# EAGLE library part 750314461 (library WE-IBTI)
WE-IBTI Isolated Buck Transformers Characteristics Flybuck™ topology Operating Temp: -40°C to +125°C Excellent leakage inductance and interwinding capacitance performance Applications Industrial Programmable Logic Controllers (PLCs) Building automation and process control Isolated interface power: RS-422, RS-485, CAN, I2C, LAN Motor drive control, inverters and industrial automation Isolated low power drivers & regulators, smart e-meters Bias power supplies for gate drives and op-amps <https://www.we-online.com/components/media/o790826v209%20family-MID-IBTI.1673.jpg> Details see: www.we-online.com/en/components/products/WE-IBTI <www.we-online.com/catalog/WE-IBTI/?utm_source=eagle_model&utm_medium=description_link&utm_campaign=eisos_eagle> Created by Ella Wu 2024-06-07 2024 (C) Wurth Elektronik
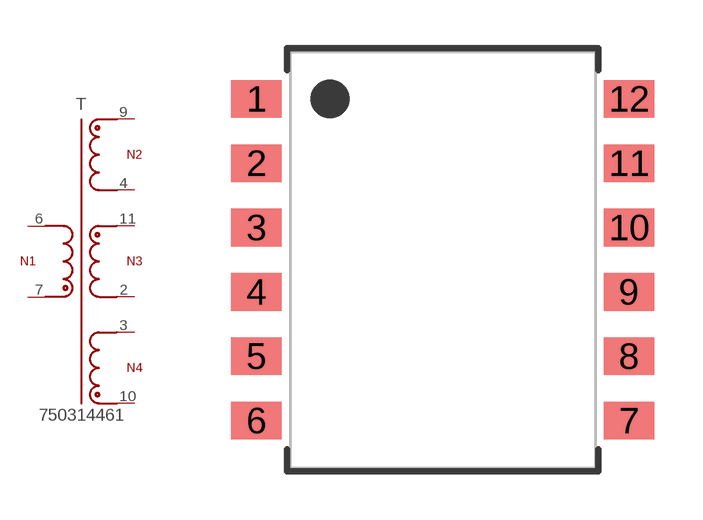
[diagram p20: symbol with the pads of WE-IBTI_ER11.5_L12.95W12.7H5.98; footprint WE-IBTI_ER11.5_L12.95W12.7H5.98]

Designator prefix T

## 750314461 (DATASHEET-URL: https://www.we-online.com/redexpert/spec/750314461?ae; FSWITCH: 200 - 350kHz; HEIGHT: 5.98mm; IOUT1: 33mA; IOUT2: 100mA; IOUT3: 100mA; ISAT: 0.96A; L: 45uH; LENGTH: 12.95mm; LS: 400nH; MOUNT: SMT; N: 1.92:3:1:1; PART-NUMBER: 750314461; SIZE: ER11.5; VALUE: 750314461; VBUCK: 13V; VIN: 16 - 36 V (DC); VOUT1: 15V; VOUT2: 5V; VOUT3: -5V; VT: 1500V(AC); WIDTH: 12.7mm)  [WE-IBTI_ER11.5_L12.95W12.7H5.98]
2  2  pas
3  3  pas
4  4  pas
6  6  pas
7  7  pas
9  9  pas
10  10  pas
11  11  pas

## Footprint WE-IBTI_ER11.5_L12.95W12.7H5.98 (pad centres in mm)
WE-IBTI Isolated Buck Transformers Size: ER11.5,SMT,12pins LXWXH=12.95X12.7X5.98mm
smd 1.57 x 1.17: 1 -5.79,5; 2 -5.79,3; 3 -5.79,1; 4 -5.79,-1; 5 -5.79,-3; 6 -5.79,-5; 7 5.79,-5; 8 5.79,-3; 9 5.79,-1; 10 5.79,1; 11 5.79,3; 12 5.79,5